# EAGLE library part APC220 (library Arsenio_Dev)
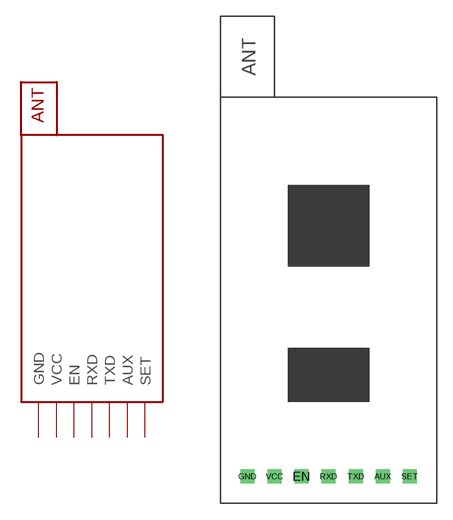
[diagram p10: symbol with the pads of APC220; footprint APC220]

Designator prefix -

## APC220  [APC220]
AUX  AUX
EN  EN
GND  GND
RXD  RXD
SET  SET
TXD  TXD
VCC  VCC

## Footprint APC220 (pad centres in mm)
drill 0.8 square: AUX 5.08,-15.24; EN -2.54,-15.24; GND -7.62,-15.24; RXD 0,-15.24; SET 7.62,-15.24; TXD 2.54,-15.24; VCC -5.08,-15.24